# Altium schematic symbol library UW_PR2_FINERTIP_COMPONENTS.SchLib: 6 symbols
Pins are listed as number, name and electrical type; pins without a type are passive.

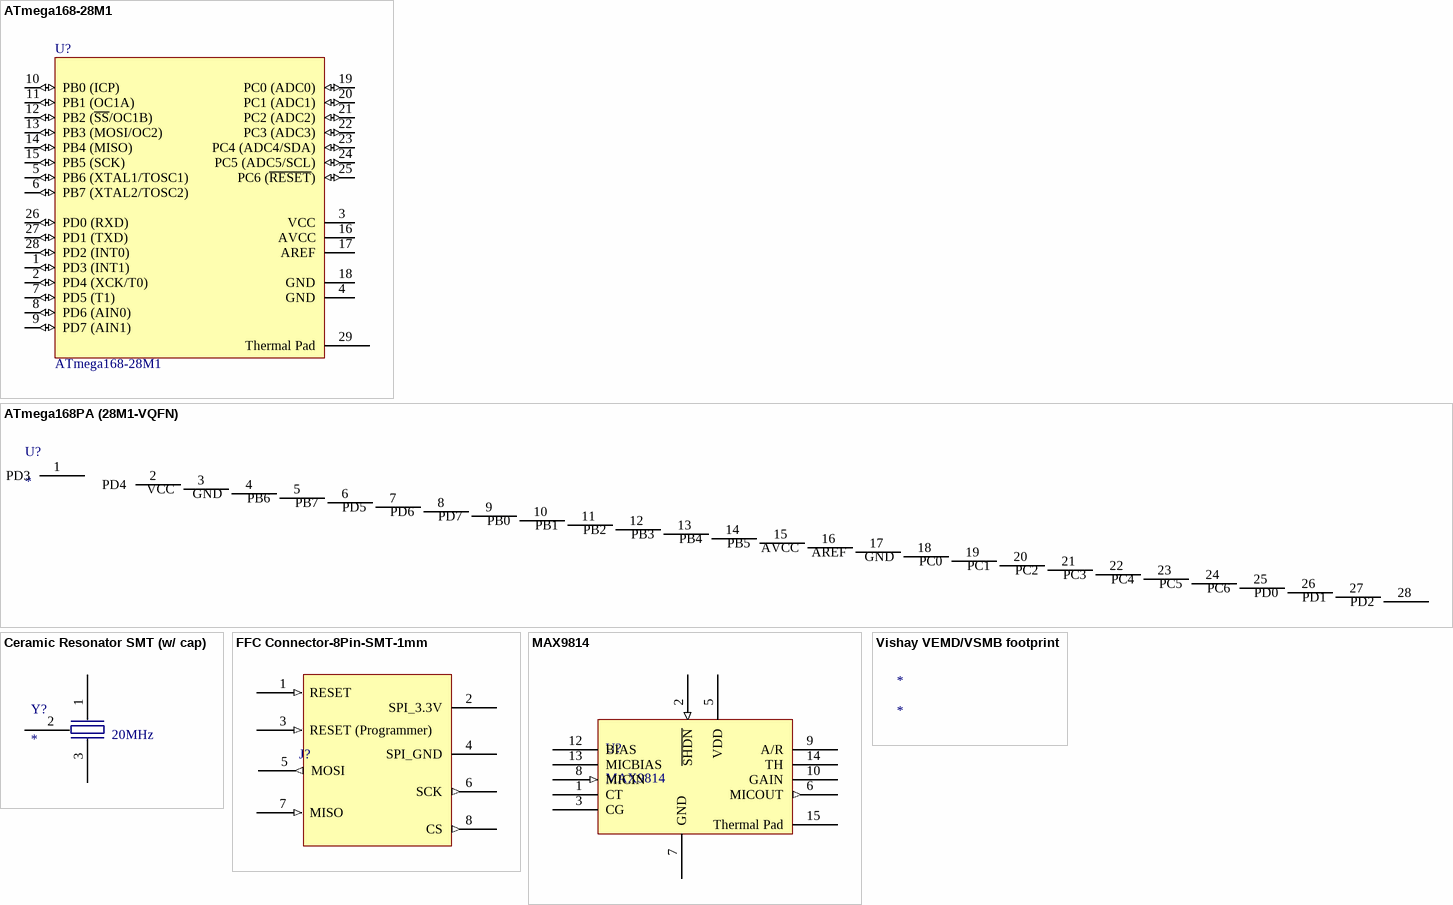
[diagram p0: symbols ATmega168-28M1 to Vishay VEMD/VSMB footprint]

## ATmega168-28M1
designator U?
8-Bit AVR Microcontroller with 8K Bytes of In-System Programmable Flash Memory; Published: 17-Sep-2003; LatestRevisionDate: 04-Mar-2005; LatestRevisionNote: Stylized 3D Model Added.; DatasheetVersion: 2486H-AVR-09/02; PackageVersion: revB, Sep-2001; PackageReference: 28P3; Publisher: Altium Limited; PackageDescription: DIP; 28 Leads; Row Spacing 7.62 mm; Pitch 2.54 mm; ComponentLink1Description: Manufacturer Link; ComponentLink1URL: http://www.atmel.com; ComponentLink2Description: Datasheet; ComponentLink2URL: http://www.atmel.com/dyn/resources/prod_documents/doc2486.pdf
footprint 28M1 (QFN, 28 Body 4.0x4.0mm, Pitch 0.45mm, IPC Medium Density)
pins: 1 PD3 (INT1) (io), 2 PD4 (XCK/T0) (io), 3 VCC (power), 4 GND (power), 5 PB6 (XTAL1/TOSC1) (io), 6 PB7 (XTAL2/TOSC2) (io), 7 PD5 (T1) (io), 8 PD6 (AIN0) (io), 9 PD7 (AIN1) (io), 10 PB0 (ICP) (io), 11 PB1 (OC1A) (io), 12 PB2 (~{SS}/OC1B) (io), 13 PB3 (MOSI/OC2) (io), 14 PB4 (MISO) (io), 15 PB5 (SCK) (io), 16 AVCC (power), 17 AREF, 18 GND (power), 19 PC0 (ADC0) (io), 20 PC1 (ADC1) (io), 21 PC2 (ADC2) (io), 22 PC3 (ADC3) (io), 23 PC4 (ADC4/SDA) (io), 24 PC5 (ADC5/SCL) (io), 25 PC6 (~{RESET}) (io), 26 PD0 (RXD) (io), 27 PD1 (TXD) (io), 28 PD2 (INT0) (io), 29 Thermal Pad (power)

## ATmega168PA (28M1-VQFN)
designator U?
footprint QFN45P400X400X100-28N (QFN, 28-Leads, Body 4.0x4.0mm, Pitch 0.45mm, IPC Medium Density)
pins: 1 PD3, 2 PD4, 3 VCC, 4 GND, 5 PB6, 6 PB7, 7 PD5, 8 PD6, 9 PD7, 10 PB0, 11 PB1, 12 PB2, 13 PB3, 14 PB4, 15 PB5, 16 AVCC, 17 AREF, 18 GND, 19 PC0, 20 PC1, 21 PC2, 22 PC3, 23 PC4, 24 PC5, 25 PC6, 26 PD0, 27 PD1, 28 PD2

## Ceramic Resonator SMT (w/ cap)
designator Y?  Frequency: 20MHz
TDK Ceramic Resonator 20MHz CCR20.0MXC7T
footprint TDK-CCR20 (TDK Ceramic Resonator CCR20.0MXC7T)
footprint ECS-CR2-B (ECS-CR2-B SMD CERAMIC RESONATOR)
footprint AVX-PRQC Ceramic Resomator SMD
pins: 1 IN/OUT, 2 GND (power), 3 OUT/IN

## FFC Connector-8Pin-SMT-1mm
designator J?, comment FFC 8-PIN Connector (1mm)  (value not drawn)
FFC 8-PIN Connector (1mm) (SMT)
footprint Molex 52610-0871
footprint Hirose FFC connector 8-Pin (Hirose FFC connector 8-Pin (FH12-8S-1SV))
pins: 1 RESET (in) "Active high reset. Controlled by WG006 board level reset", 2 SPI_3.3V (power) "Supply for SPI device.", 3 RESET (Programmer) (in) "RESET line used by Programmer", 4 SPI_GND (power) "Common ground for SPI signals. Isolated from WG006 ground.", 5 MOSI (out) "Data master out slave in.", 6 SCK (out) "SPI clock", 7 MISO (in) "Data master in slave out", 8 CS (out) "Active low chip select for device 1"

## MAX9814
designator U?
Microphone Amplifier with AGC and   Low-Noise Microphone Bias
footprint QFN-14-two rows (QFN14-two rows)
footprint QFN-14-Minnimum-Solder-Mask-Relief
footprint QFN-14-No-Solder-Mask-Relief
pins: 1 CT "Timing Capacitor Connection. Connect a capacitor to CT to control the Attack and Release times  of the AGC", 2 ~{SHDN} (in) "Active-Low Shutdown Control", 3 CG "Amplifier DC Offset Adjust. Connect a 2.2µF capacitor to GND to ensure zero offset at the output.", 4 NC hidden, 5 VDD (power) "Power Supply. Bypass to GND with a 1µF capacitor.", 6 MICOUT (out) "Amplifier Output", 7 GND (power), 8 MICIN (in), 9 A/R, 10 GAIN, 11 NC hidden, 12 BIAS, 13 MICBIAS (power), 14 TH, 15 Thermal Pad

## Vishay VEMD/VSMB footprint
designator *